# Altium footprint library PcbLib1.PcbLib: 1 footprints
Each footprint in its own frame and in the unit in brackets; x right, y up, seen from the top. Pads: shape width x height; smd on the part's side, far side on the other; paste and mask are expansions set on the pad; w line width, h text height; cw(c..) or ccw(c..) is an arc to the next point about the centre after c.
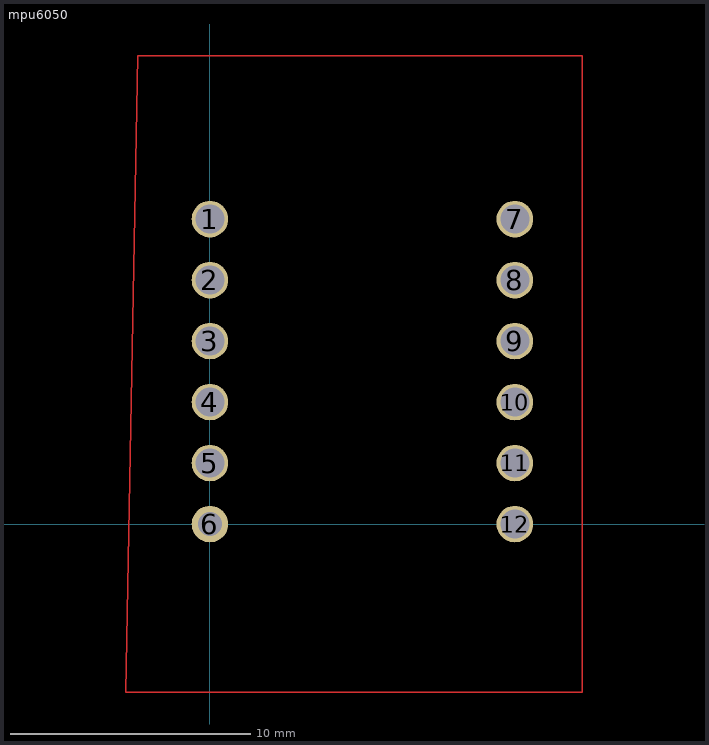
[diagram p0: the footprint, top view; thin cyan lines are the x and y axes]

## mpu6050 [mil]
pads (12):
  round 60 hole 47.24: 1(0,500) 2(0,400) 3(0,300) 4(0,200) 5(0,100) 7(500,500) 8(500,400) 9(500,300) 10(500,200) 11(500,100) 12(500,0)
  round 60 hole 39.37: 6(0,0)
Top Layer:
  lines w2.54: -137.8,-275.59 -118.11,767.72 0,767.72 610.24,767.72 610.24,-275.59 -137.8,-275.59